# EAGLE library part LTC2604* (library linear-technology)
Quad 16-Bit Rail-to-Rail DACs
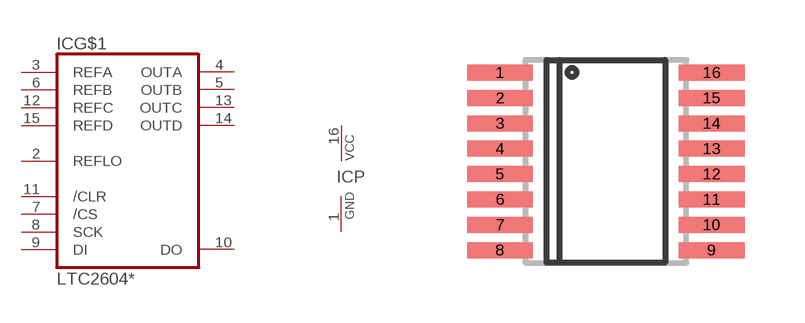
[diagram p6: symbol with the pads of SSOP16; footprint SSOP16]

Designator prefix IC; gates P=PWRN-C-G G$1=LTC2604

## LTC2604CGN, LTC2604IGN  [SSOP16]
1  P:GND  pwr
2  G$1:REFLO  pas
3  G$1:REFA  pas
4  G$1:OUTA  out
5  G$1:OUTB  out
6  G$1:REFB  pas
7  G$1:/CS  in
8  G$1:SCK  in
9  G$1:DI  in
10  G$1:DO  hiz
11  G$1:/CLR  in
12  G$1:REFC  pas
13  G$1:OUTC  out
14  G$1:OUTD  out
15  G$1:REFD  pas
16  P:VCC  pwr

## Footprint SSOP16 (pad centres in mm)
smd 1.65 x 0.4: 1 -2.646,2.223; 2 -2.646,1.587; 3 -2.646,0.953; 4 -2.646,0.318; 5 -2.646,-0.318; 6 -2.646,-0.953; 7 -2.646,-1.587; 8 -2.646,-2.223; 9 2.646,-2.223; 10 2.646,-1.587; 11 2.646,-0.953; 12 2.646,-0.318; 13 2.646,0.318; 14 2.646,0.953; 15 2.646,1.587; 16 2.646,2.223